# EAGLE library part FTS-105-03-L-D (library PinHeader2x5_1_27mm)
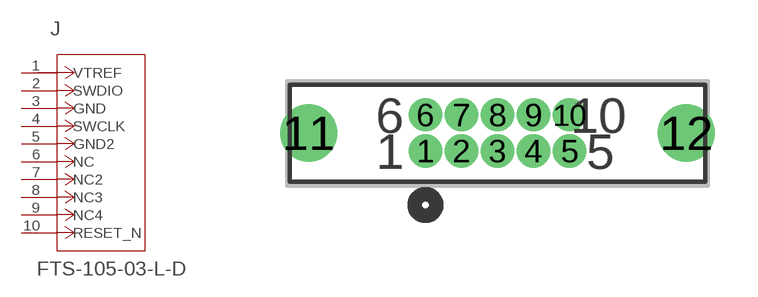
[diagram p0: symbol with the pads of CON10_2X5_TU3_FTS; footprint CON10_2X5_TU3_FTS]

Designator prefix J

## FTS-105-03-L-D (CATEGORY: Connectors; COLOR: Black; CONNECTORTYPE: Header, Unshrouded; CONTACTFINISH: Gold; CONTACTFINISHTHICKNESS: 10µin (0.25µm); CONTACTMATINGLENGTH: 0.065" (1.65mm); CONTACTTYPE: Male Pin; COPYRIGHT: Copyright (C) 2015 Accelerated Designs. All rights reserved; DATASHEET: http://www.samtec.com/ftppub/cpdf/FTS-MKT.PDF; DIGIKEYPARTNUMBER: SAM1158-05-ND; FASTENINGTYPE: -; FEATURES: -; MANUFACTURER_PART_NUMBER: FTS-105-03-L-D; MOUNTINGTYPE: Through Hole; NEWARKPARTNUMBER: 11P4654; NUMBEROFCONTACTSLOADED: All; NUMBEROFPOSITIONS: 10; NUMBEROFPOSITIONSLOADED: All; NUMBEROFROWS: 2; PACKAGING: Bulk; PITCH: 0.050" (1.27mm); QUANTITY_AVAILABLE: 0; ROWSPACING: 0.050" (1.27mm); TERMINATION: Solder; VENDOR: Samtec Inc)  [CON10_2X5_TU3_FTS]
1  VTREF  pas
2  SWDIO  pas
3  GND  pas
4  SWCLK  pas
5  GND2  pas
6  NC  pas
7  NC2  pas
8  NC3  pas
9  NC4  pas
10  RESET_N  pas

## Footprint CON10_2X5_TU3_FTS (pad centres in mm)
drill 0.66 pad 1.168: 1 -5.08,-1.27; 2 -3.81,-1.27; 3 -2.54,-1.27; 4 -1.27,-1.27; 5 0,-1.27; 6 -5.08,0; 7 -3.81,0; 8 -2.54,0; 9 -1.27,0; 10 0,0
drill 1.346 pad 1.346: 11 -9.195,-0.635; 12 4.115,-0.635